# Altium schematic symbol library RPSLib_Sensor.SchLib: 7 symbols
Pins are listed as number, name and electrical type; pins without a type are passive.

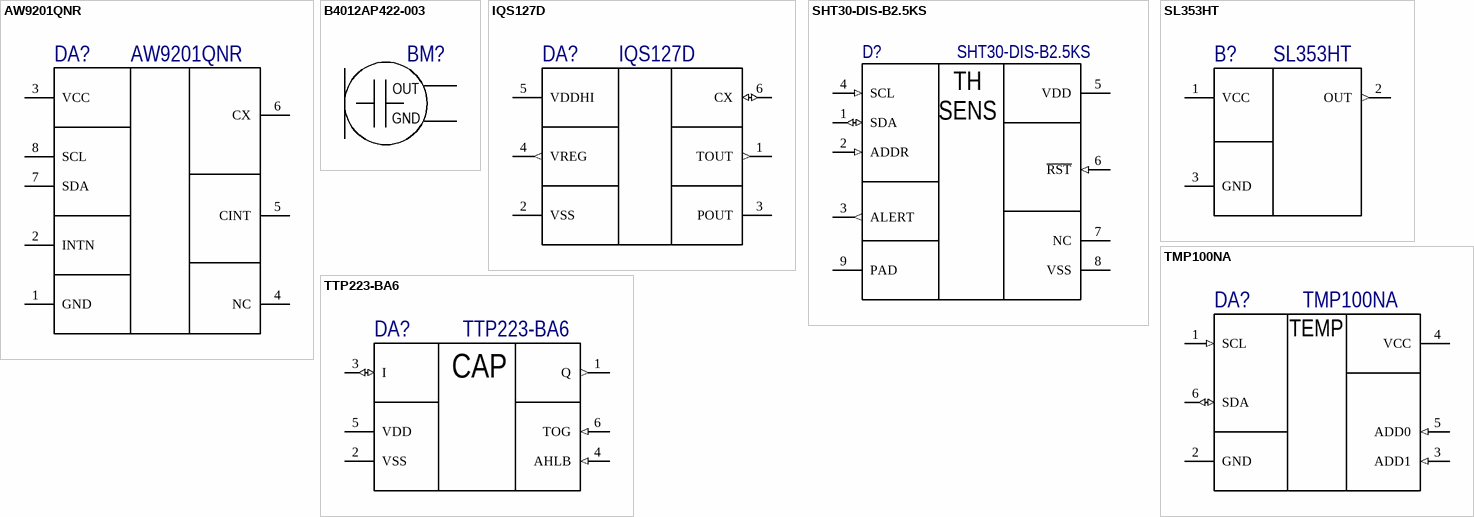
[diagram p0: symbols AW9201QNR to TTP223-BA6]

## AW9201QNR
designator DA?
Capacitive Touch Sensors Default Config Prox & Touch; Manufacturer: Awinic; Operating Supply Voltage: 3.6V; Number of Channels: 1; Interface: Serial; Supplier 1: LCSC; Manufacturer Part Number: AW9201QNR; Packaging: Tape and Reel; Package Quantity: 3000; Sensing Method: Capacitive; Supplier Part Number 1: C506183; РКД Наименование: *
footprint QFN40P160X160X80-8N (QFN, 8-Leads, Body 1,60x1,60mm, Pitch 0,40mm, IPC Medium Density)
pins: 1 GND, 2 INTN, 3 VCC, 4 NC, 5 CINT, 6 CX, 7 SDA, 8 SCL

## B4012AP422-003
designator BM?  (value not drawn)
Condenser Microphone Throw Hole; Manufacturer: Goertek; Manufacturer Part Number: B4012AP422-003; Supplier 1: LCSC; Supplier Part Number 1: C233791
footprint B4012AP422-003 (Microphone Throw - hole, d4h1.4)
pins: 1 OUT, 2 GND
1 alternate drawing of the same symbol

## IQS127D
designator DA?
Capacitive Touch Sensors Default Config Prox & Touch; Manufacturer: Azoteq; Manufacturer Part Number: IQS127D-00000TSR; Operating Supply Voltage: 5.5V; Number of Channels: 1; Interface: Serial; Supplier 1: Digi-Key; Stock 1: 21916; Pricing 1: 1=0.79, 5=0.754, 10=0.657, 25=0.5772, 50=0.4796, 100=0.4085, 500=0.3552, 1000=0.3108 (USD); Packaging: Tape and Reel; Package Quantity: 3000; Sensing Method: Capacitive; Supplier Part Number 1: 1790-1025-6-ND; РКД Наименование: *
footprint SOT95P280X100-6N (Footprint not found)
pins: 1 TOUT (out), 2 VSS (power), 3 POUT, 4 VREG (out), 5 VDDHI (power), 6 CX (io)

## SHT30-DIS-B2.5KS
designator D?
Humidity/Temperature Sensor Digital Serial (I2C) Automotive 8-Pin TDFN EP T/R; Manufacturer: Sensirion; Supplier 1: Digi-Key; Manufacturer Part Number: SHT30-DIS-B2.5KS; RoHS: Yes; Category: Temperature and Humidity Sensors; Stock 1: 13898; Pricing 1: 1=4,38000, 5=3,86000, 10=3,41100, 25=2,76720, 50=2,44520, 100=2,38100, 500=1,99484, 1000=1,86615 (USD); RoHS Compliant: Yes; ComponentLink1URL: https://media.digikey.com/pdf/Data%20Sheets/Sensirion%20PDFs/HT_DS_SHT3x_DIS.pdf?src-supplier=Digi-Key; ComponentLink1Description: https://media.digikey.com/pdf/Data%20Sheets/Sensirion%20PDFs/HT_DS_SHT3x_DIS.pdf?src-supplier=Digi-Key; Supplier Part Number 1: 1649-1009-1-ND; Supplier 2: LCSC; Supplier Part Number 2: C77361
footprint SON50P250X100_HS-9N (Description: SON, 8-Leads, Body 2,50x2,50mm, Pitch 0,50mm, Thermal Pad 1,80x1,09mm, IPC Medium Density)
pins: 1 SDA (io), 2 ADDR (in), 3 ALERT (out), 4 SCL (in), 5 VDD (power), 6 ~{RST} (in), 7 NC (power), 8 VSS (power), 9 PAD (power)
text: TH; SENS

## SL353HT
designator B?
HONEYWELL S&C   SL353HT   Hall Effect Sensor, Omnipolar, 330 A, SOT-23, 3, 2.2 V, 5.5 V; Manufacturer: Honeywell Sensing & Control; Max Output Current: 5mA; Operating Supply Current: 640uA; Output Type: Digital; Nominal Supply Current: 2.5mA; Min Supply Voltage: 2.2V; Max Supply Voltage: 5.5V; Operating Supply Voltage: 5V; Output Current: 330uA; Duty Cycle: 13%; Output Voltage: 250mV; Supplier 1: Digi-Key; Manufacturer Part Number: SL353HT; RoHS: Yes; Category: Magnetic Sensors; Stock 1: 7323; Pricing 1: 1=0,92000, 10=0,81000, 25=0,76240, 50=0,73060, 100=0,69880, 500=0,57172, 1000=0,50820 (USD); Mount: Surface Mount; Case/Package: SOT-23; Number of Pins: 3; Min Operating Temperature: -40°C; Max Operating Temperature: 85°C; Packaging: Tape and Reel; Type: Integrated Circuit (IC); Package Quantity: 1; Termination: SMD/SMT; Length: 2.9mm; Height: 1.2mm; Width: 1.6mm; REACH SVHC: No SVHC; ComponentLink1URL: https://datasheet.ciiva.com/22695/1676928-22695010.pdf?src-supplier=Element14; ComponentLink1Description: https://datasheet.ciiva.com/22695/1676928-22695010.pdf?src-supplier=Element14; ComponentLink2URL: https://datasheet.ciiva.com/5296/sl353-191381-5296856.pdf?src-supplier=Mouser; ComponentLink2Description: https://datasheet.ciiva.com/5296/sl353-191381-5296856.pdf?src-supplier=Mouser; Supplier Part Number 1: 480-3327-1-ND
footprint SOT95P232X100-3N (SOT23, 3-Leads, Body 2.92x2.32mm, Pitch 0.95mm, IPC Medium Density)
pins: 1 VCC (power), 2 OUT (out), 3 GND (power)

## TMP100NA
designator DA?
TEXAS INSTRUMENTS - TMP100NA/250 - TEMPERATUR SENSOR; Interface: I2C,SMBus,2-Wire; Min Supply Voltage: 2.7V; Max Supply Voltage: 5.5V; Output Type: I2C,Digital; Resolution: 12b; Quiescent Current: 45uA; Number of Bits: 12; Operating Supply Current: 75uA; Nominal Supply Current: 150uA; Output Current: 4mA; IIC Address: 1001AAA; Supplier 1: Digi-Key; Manufacturer: Texas Instruments; Manufacturer Part Number: TMP100NA/250; RoHS: Yes; Category: Power Management ICs; Stock 1: 10497; Pricing 1: 1=2,68000, 5=2,53400, 10=2,17100, 25=1,73720, 50=1,59240, 100=1,44760 (USD); Mount: Surface Mount; Case/Package: SOT-23; Number of Pins: 6; Contact Plating: Gold; Min Operating Temperature: -55°C; Max Operating Temperature: 125°C; Package Quantity: 250; Packaging: Tape and Reel; Max Supply Voltage (DC): 5.5V; Min Supply Voltage (DC): 2.7V; Termination: SMD/SMT; Length: 2.9mm; Height: 1.15mm; Width: 1.6mm; Radiation Hardening: No; Lead Free: Lead Free; REACH SVHC: No SVHC; ComponentLink1URL: https://datasheet.ciiva.com/34303/1927174-34303272.pdf?src-supplier=Jameco; ComponentLink1Description: https://datasheet.ciiva.com/34303/1927174-34303272.pdf?src-supplier=Jameco; ComponentLink2URL: https://datasheet.ciiva.com/15098/getdatasheetpartid-295657-15098429.pdf?src-supplier=Verical; ComponentLink2Description: https://datasheet.ciiva.com/15098/getdatasheetpartid-295657-15098429.pdf?src-supplier=Verical; ComponentLink3URL: https://datasheet.ciiva.com/2003/tmp100-2003093.pdf?src-supplier=Digi-Key; ComponentLink3Description: https://datasheet.ciiva.com/2003/tmp100-2003093.pdf?src-supplier=Digi-Key; ComponentLink4URL: https://datasheet.ciiva.com/22697/1904850-22697893.pdf?src-supplier=Element14; ComponentLink4Description: https://datasheet.ciiva.com/22697/1904850-22697893.pdf?src-supplier=Element14; ComponentLink5URL: https://datasheet.ciiva.com/2003/tmp100-2003094.pdf?src-supplier=Digi-Key; ComponentLink5Description: https://datasheet.ciiva.com/2003/tmp100-2003094.pdf?src-supplier=Digi-Key; ComponentLink6URL: https://datasheet.ciiva.com/2003/tmp100-2003095.pdf?src-supplier=Digi-Key; ComponentLink6Description: https://datasheet.ciiva.com/2003/tmp100-2003095.pdf?src-supplier=Digi-Key; ComponentLink7URL: https://datasheet.ciiva.com/3278/tmp101-3278377.pdf?src-supplier=Avnet; ComponentLink7Description: https://datasheet.ciiva.com/3278/tmp101-3278377.pdf?src-supplier=Avnet; ComponentLink8URL: https://datasheet.ciiva.com/1514/1772209-1514091.pdf?src-supplier=Element14; ComponentLink8Description: https://datasheet.ciiva.com/1514/1772209-1514091.pdf?src-supplier=Element14; ComponentLink9URL: https://datasheet.ciiva.com/26021/tmp101-26021436.pdf?src-supplier=Avnet+Europe; ComponentLink9Description: https://datasheet.ciiva.com/26021/tmp101-26021436.pdf?src-supplier=Avnet+Europe; ComponentLink10URL: https://datasheet.ciiva.com/3277/tmp101-3277999.pdf?src-supplier=Avnet; ComponentLink10Description: https://datasheet.ciiva.com/3277/tmp101-3277999.pdf?src-supplier=Avnet; ComponentLink11URL: https://datasheet.ciiva.com/46382/1772209-46382799.pdf?src-supplier=Element14; ComponentLink11Description: https://datasheet.ciiva.com/46382/1772209-46382799.pdf?src-supplier=Element14; Supplier Part Number 1: 296-12749-1-ND
footprint SOT95P280X145-6N (SOT23, 6-Leads, Body 2.92x2.80mm, Pitch 0.95mm, IPC Medium Density)
pins: 1 SCL (in), 2 GND, 3 ADD1 (in), 4 VCC (power), 5 ADD0 (in), 6 SDA (io)
text: TEMP

## TTP223-BA6
designator DA?
Capacitive Touch Sensors; Manufacturer: TonTek; Operating Supply Voltage: 5.5V; Number of Channels: 1; Supplier 1: *; Manufacturer Part Number: TTP223-BA6; Stock 1: *; Packaging: Tape and Reel; Sensing Method: Capacitive; Supplier Part Number 1: *; РКД Наименование: *
footprint SOT95P280X145-6N (SOT23, 6-Leads, Body 2.92x2.80mm, Pitch 0.95mm, IPC Medium Density)
pins: 1 Q (out), 2 VSS (power), 3 I (io), 4 AHLB (in), 5 VDD (power), 6 TOG (in)
text: CAP